# Altium footprint library 0ZCG0200FF2B.PcbLib: 1 footprints
Each footprint in its own frame and in the unit in brackets; x right, y up, seen from the top. Pads: shape width x height; smd on the part's side, far side on the other; paste and mask are expansions set on the pad; w line width, h text height; cw(c..) or ccw(c..) is an arc to the next point about the centre after c.
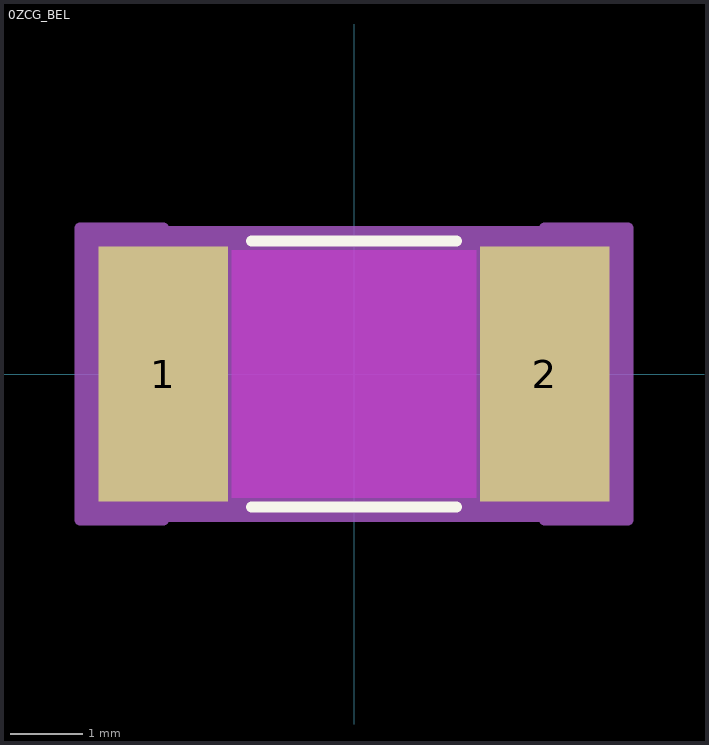
[diagram p0: the footprint, top view; thin cyan lines are the x and y axes]

## 0ZCG_BEL [mil]
pads (2):
  rect 70x138 smd paste+0 mask+0: 1(-103,0) 2(103,0)
Top Layer keep-out:
  region: -66,-67 -66,67 66,67 66,-67
Top Overlay:
  lines w6: -55.25,-72 55.25,-72 ; -55.25,72 55.25,72
Mechanical 13:
  circle w0: c-83,0 r0
  lines w1: -93,-67 93,-67 93,67 -93,67 -93,-67
Mechanical 15:
  region: -103,-79 -148,-79 -148,79 -103,79 -103,77 103,77 103,79 148,79 148,-79 103,-79 103,-77 -103,-77
  region: 93,-67 -93,-67 -93,67 93,67
  lines w6: -148,-79 -148,79 -103,79 -103,77 103,77 103,79 148,79 148,-79 103,-79 103,-77 -103,-77 -103,-79 -148,-79
3D body "0ZCG_BEL.step": height 61.1, standoff -0.12, extent -92.99,-67.09 92.99,67.09